# EAGLE library part STM32N645I0H3Q (library STM32N645I0H3Q)
Arm Cortex-M55-based MCU, with ST Neural-ART Accelerator, H264 encoder, Neo-Chrom 2.5D GPU, 4.2 Mbytes contiguous SRAM Source: Datasheet <https://www.st.com/resource/en/datasheet/stm32n657a0.pdf>
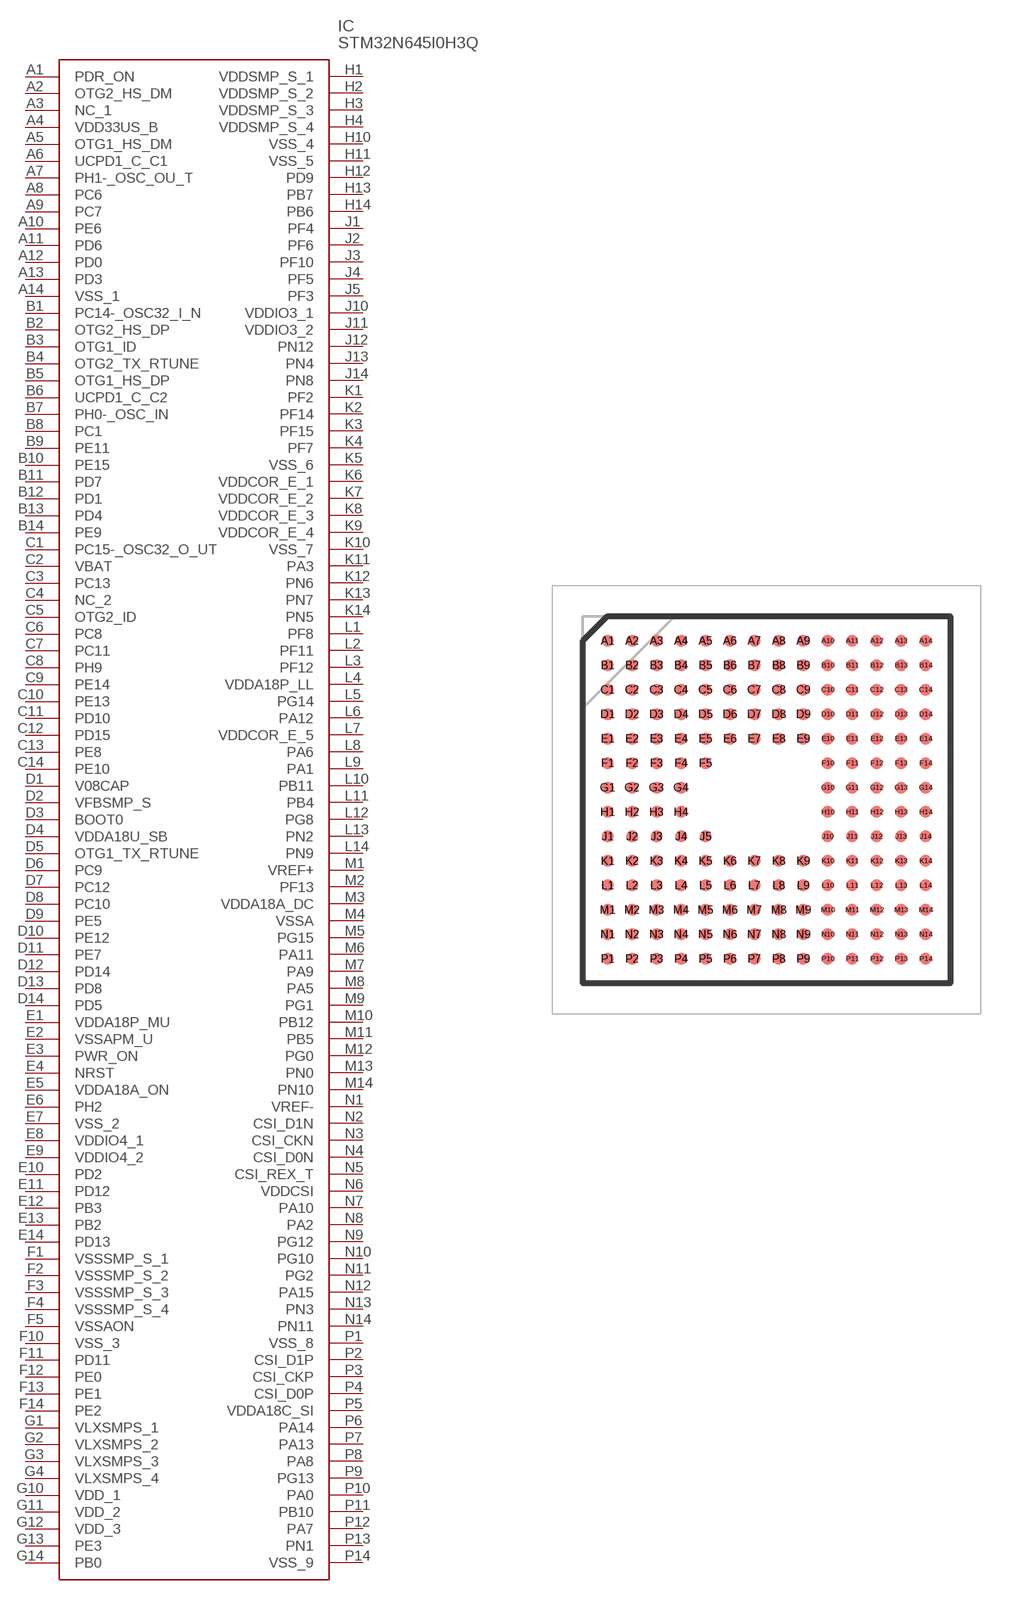
[diagram p0: symbol with the pads of BGA178C80P14X14_1200X1200X100; footprint BGA178C80P14X14_1200X1200X100]

Designator prefix IC

## STM32N645I0H3Q (Description: Arm Cortex-M55-based MCU, with ST Neural-ART Accelerator, H264 encoder, Neo-Chrom 2.5D GPU, 4.2 Mbytes contiguous SRAM; Height: 1mm; Manufacturer_Name: STMicroelectronics; Manufacturer_Part_Number: STM32N645I0H3Q)  [BGA178C80P14X14_1200X1200X100]
A1  PDR_ON
A2  OTG2_HS_DM
A3  NC_1
A4  VDD33US_B
A5  OTG1_HS_DM
A6  UCPD1_C_C1
A7  PH1-_OSC_OU_T
A8  PC6
A9  PC7
A10  PE6
A11  PD6
A12  PD0
A13  PD3
A14  VSS_1
B1  PC14-_OSC32_I_N
B2  OTG2_HS_DP
B3  OTG1_ID
B4  OTG2_TX_RTUNE
B5  OTG1_HS_DP
B6  UCPD1_C_C2
B7  PH0-_OSC_IN
B8  PC1
B9  PE11
B10  PE15
B11  PD7
B12  PD1
B13  PD4
B14  PE9
C1  PC15-_OSC32_O_UT
C2  VBAT
C3  PC13
C4  NC_2
C5  OTG2_ID
C6  PC8
C7  PC11
C8  PH9
C9  PE14
C10  PE13
C11  PD10
C12  PD15
C13  PE8
C14  PE10
D1  V08CAP
D2  VFBSMP_S
D3  BOOT0
D4  VDDA18U_SB
D5  OTG1_TX_RTUNE
D6  PC9
D7  PC12
D8  PC10
D9  PE5
D10  PE12
D11  PE7
D12  PD14
D13  PD8
D14  PD5
E1  VDDA18P_MU
E2  VSSAPM_U
E3  PWR_ON
E4  NRST
E5  VDDA18A_ON
E6  PH2
E7  VSS_2
E8  VDDIO4_1
E9  VDDIO4_2
E10  PD2
E11  PD12
E12  PB3
E13  PB2
E14  PD13
F1  VSSSMP_S_1
F2  VSSSMP_S_2
F3  VSSSMP_S_3
F4  VSSSMP_S_4
F5  VSSAON
F10  VSS_3
F11  PD11
F12  PE0
F13  PE1
F14  PE2
G1  VLXSMPS_1
G2  VLXSMPS_2
G3  VLXSMPS_3
G4  VLXSMPS_4
G10  VDD_1
G11  VDD_2
G12  VDD_3
G13  PE3
G14  PB0
H1  VDDSMP_S_1
H2  VDDSMP_S_2
H3  VDDSMP_S_3
H4  VDDSMP_S_4
H10  VSS_4
H11  VSS_5
H12  PD9
H13  PB7
H14  PB6
J1  PF4
J2  PF6
J3  PF10
J4  PF5
J5  PF3
J10  VDDIO3_1
J11  VDDIO3_2
J12  PN12
J13  PN4
J14  PN8
K1  PF2
K2  PF14
K3  PF15
K4  PF7
K5  VSS_6
K6  VDDCOR_E_1
K7  VDDCOR_E_2
K8  VDDCOR_E_3
K9  VDDCOR_E_4
K10  VSS_7
K11  PA3
K12  PN6
K13  PN7
K14  PN5
L1  PF8
L2  PF11
L3  PF12
L4  VDDA18P_LL
L5  PG14
L6  PA12
L7  VDDCOR_E_5
L8  PA6
L9  PA1
L10  PB11
L11  PB4
L12  PG8
L13  PN2
L14  PN9
M1  VREF+
M2  PF13
M3  VDDA18A_DC
M4  VSSA
M5  PG15
M6  PA11
M7  PA9
M8  PA5
M9  PG1
M10  PB12
M11  PB5
M12  PG0
M13  PN0
M14  PN10
N1  VREF-
N2  CSI_D1N
N3  CSI_CKN
N4  CSI_D0N
N5  CSI_REX_T
N6  VDDCSI
N7  PA10
N8  PA2
N9  PG12
N10  PG10
N11  PG2
N12  PA15
N13  PN3
N14  PN11
P1  VSS_8
P2  CSI_D1P
P3  CSI_CKP
P4  CSI_D0P
P5  VDDA18C_SI
P6  PA14
P7  PA13
P8  PA8
P9  PG13
P10  PA0
P11  PB10
P12  PA7
P13  PN1
P14  VSS_9

## Footprint BGA178C80P14X14_1200X1200X100 (pad centres in mm)
STM32N657I0H3Q
smd 0.394 x 0.394: A1 -5.2,5.2; A2 -4.4,5.2; A3 -3.6,5.2; A4 -2.8,5.2; A5 -2,5.2; A6 -1.2,5.2; A7 -0.4,5.2; A8 0.4,5.2; A9 1.2,5.2; A10 2,5.2; A11 2.8,5.2; A12 3.6,5.2; A13 4.4,5.2; A14 5.2,5.2; B1 -5.2,4.4; B2 -4.4,4.4; B3 -3.6,4.4; B4 -2.8,4.4; B5 -2,4.4; B6 -1.2,4.4; B7 -0.4,4.4; B8 0.4,4.4; B9 1.2,4.4; B10 2,4.4; B11 2.8,4.4; B12 3.6,4.4; B13 4.4,4.4; B14 5.2,4.4; C1 -5.2,3.6; C2 -4.4,3.6; C3 -3.6,3.6; C4 -2.8,3.6; C5 -2,3.6; C6 -1.2,3.6; C7 -0.4,3.6; C8 0.4,3.6; C9 1.2,3.6; C10 2,3.6; C11 2.8,3.6; C12 3.6,3.6; C13 4.4,3.6; C14 5.2,3.6; D1 -5.2,2.8; D2 -4.4,2.8; D3 -3.6,2.8; D4 -2.8,2.8; D5 -2,2.8; D6 -1.2,2.8; D7 -0.4,2.8; D8 0.4,2.8; D9 1.2,2.8; D10 2,2.8; D11 2.8,2.8; D12 3.6,2.8; D13 4.4,2.8; D14 5.2,2.8; E1 -5.2,2; E2 -4.4,2; E3 -3.6,2; E4 -2.8,2; E5 -2,2; E6 -1.2,2; E7 -0.4,2; E8 0.4,2; E9 1.2,2; E10 2,2; E11 2.8,2; E12 3.6,2; E13 4.4,2; E14 5.2,2; F1 -5.2,1.2; F2 -4.4,1.2; F3 -3.6,1.2; F4 -2.8,1.2; F5 -2,1.2; F10 2,1.2; F11 2.8,1.2; F12 3.6,1.2; F13 4.4,1.2; F14 5.2,1.2; G1 -5.2,0.4; G2 -4.4,0.4; G3 -3.6,0.4; G4 -2.8,0.4; G10 2,0.4; G11 2.8,0.4; G12 3.6,0.4; G13 4.4,0.4; G14 5.2,0.4; H1 -5.2,-0.4; H2 -4.4,-0.4; H3 -3.6,-0.4; H4 -2.8,-0.4; H10 2,-0.4; H11 2.8,-0.4; H12 3.6,-0.4; H13 4.4,-0.4; H14 5.2,-0.4; J1 -5.2,-1.2; J2 -4.4,-1.2; J3 -3.6,-1.2; J4 -2.8,-1.2; J5 -2,-1.2; J10 2,-1.2; J11 2.8,-1.2; J12 3.6,-1.2; J13 4.4,-1.2; J14 5.2,-1.2; K1 -5.2,-2; K2 -4.4,-2; K3 -3.6,-2; K4 -2.8,-2; K5 -2,-2; K6 -1.2,-2; K7 -0.4,-2; K8 0.4,-2; K9 1.2,-2; K10 2,-2; K11 2.8,-2; K12 3.6,-2; K13 4.4,-2; K14 5.2,-2; L1 -5.2,-2.8; L2 -4.4,-2.8; L3 -3.6,-2.8; L4 -2.8,-2.8; L5 -2,-2.8; L6 -1.2,-2.8; L7 -0.4,-2.8; L8 0.4,-2.8; L9 1.2,-2.8; L10 2,-2.8; L11 2.8,-2.8; L12 3.6,-2.8; L13 4.4,-2.8; L14 5.2,-2.8; M1 -5.2,-3.6; M2 -4.4,-3.6; M3 -3.6,-3.6; M4 -2.8,-3.6; M5 -2,-3.6; M6 -1.2,-3.6; M7 -0.4,-3.6; M8 0.4,-3.6; M9 1.2,-3.6; M10 2,-3.6; M11 2.8,-3.6; M12 3.6,-3.6; M13 4.4,-3.6; M14 5.2,-3.6; N1 -5.2,-4.4; N2 -4.4,-4.4; N3 -3.6,-4.4; N4 -2.8,-4.4; N5 -2,-4.4; N6 -1.2,-4.4; N7 -0.4,-4.4; N8 0.4,-4.4; N9 1.2,-4.4; N10 2,-4.4; N11 2.8,-4.4; N12 3.6,-4.4; N13 4.4,-4.4; N14 5.2,-4.4; P1 -5.2,-5.2; P2 -4.4,-5.2; P3 -3.6,-5.2; P4 -2.8,-5.2; P5 -2,-5.2; P6 -1.2,-5.2; P7 -0.4,-5.2; P8 0.4,-5.2; P9 1.2,-5.2; P10 2,-5.2; P11 2.8,-5.2; P12 3.6,-5.2; P13 4.4,-5.2; P14 5.2,-5.2